# Altium schematic symbol library Led GOST.SchLib: 3 symbols
Pins are listed as number, name and electrical type; pins without a type are passive.

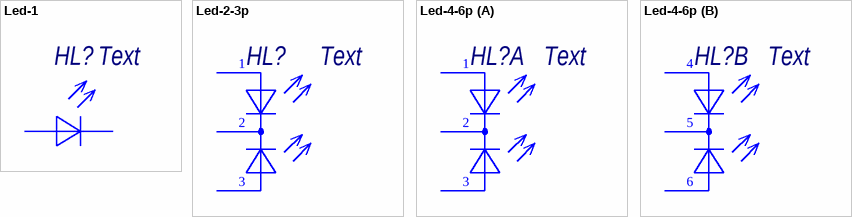
[diagram p0: symbols Led-1 to Led-4-6p]

## Led-1
designator HL?, comment Text
Type: Индикатор единичный; Published: 03.12.2013; Publisher: Andrew Danich
pins: 1 А "Анод", 2 К "Катод"
1 alternate drawing of the same symbol

## Led-2-3p
designator HL?, comment Text
Type: Сборка индикаторная; Published: 31.10.2015; Publisher: Andrew Danich
pins: 1 "Красный Анод", 2 "Катод", 3 "Зеленый Анод"
1 alternate drawing of the same symbol

## Led-4-6p
designator HL?, comment Text
Type: Сборка индикаторная; Published: 26.08.2015; Publisher: Andrew Danich
part A pins: 1 "Красный Анод", 2 "Катод", 3 "Зеленый Анод"
part B pins: 4 "Красный Анод", 5 "Катод", 6 "Зеленый Анод"
1 alternate drawing of the same symbol